# Altium footprint library 2019-09-17_05-22-07.PcbLib: 1 footprints
Each footprint in its own frame and in the unit in brackets; x right, y up, seen from the top. Pads: shape width x height; smd on the part's side, far side on the other; paste and mask are expansions set on the pad; w line width, h text height; cw(c..) or ccw(c..) is an arc to the next point about the centre after c.
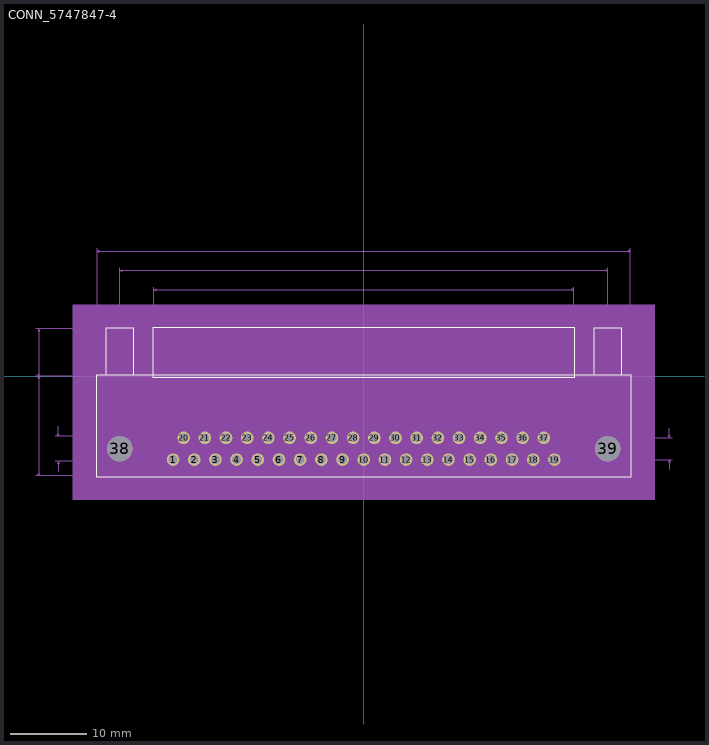
[diagram p0: the footprint, top view; thin cyan lines are the x and y axes]

## CONN_5747847-4 [mil]
pads (39):
  round 65 hole 45 mask+0: 1(-981,-430) 2(-872,-430) 3(-763,-430) 4(-654,-430) 5(-545,-430) 6(-436,-430) 7(-327,-430) 8(-218,-430) 9(-109,-430) 10(0,-430) 11(109,-430) 12(218,-430) 13(327,-430) 14(436,-430) 15(545,-430) 16(654,-430) 17(763,-430) 18(872,-430) 19(981,-430) 20(-926.5,-318) 21(-817.5,-318) 22(-708.5,-318) 23(-599.5,-318) 24(-490.5,-318) 25(-381.5,-318) 26(-272.5,-318) 27(-163.5,-318) 28(-54.5,-318) 29(54.5,-318) 30(163.5,-318) 31(272.5,-318) 32(381.5,-318) 33(490.5,-318) 34(599.5,-318) 35(708.5,-318) 36(817.5,-318) 37(926.5,-318)
  round 130 hole 130: 38(-1255,-374) 39(1255,-374)
Top Overlay:
  lines w6: -1325,5 -1325,248 -1185,248 -1185,5 ; 1185,5 1185,248 1325,248 1325,5 ; -1377,-517 1377,-517 1377,5 -1377,5 -1377,-517 ; -1084.5,-5 1084.5,-5 1084.5,248 -1084.5,248 -1084.5,-5
Mechanical 5:
  region: -1497,368 1497,368 1497,-637 -1497,-637
Mechanical 7:
  lines w1: -1687,-512 -1372,-512 -1372,658 ; -1687,243 -1372,243 ; -1587,-439 -981,-439 ; -1587,-309 -926.5,-309 ; -1572,-489 -1572,-439 ; -1572,-259 -1572,-309 ; -1487,-374 -1255,-374 -1255,558 ; -1487,0 -1372,0 ; -1079.5,243 -1079.5,458 ; -976.5,343 -926.5,343 ; -926.5,-318 -926.5,358 ; -817.5,-318 -817.5,358 ; -767.5,343 -817.5,343 ; 926.5,-318 1587,-318 ; 981,-430 1587,-430 ; 1079.5,243 1079.5,458 ; 1255,-374 1255,558 ; 1372,-512 1372,658 ; 1572,-480 1572,-430 ; 1572,-268 1572,-318 ; -1672,-512 -1672,0 ; -1672,-512 -1677,-502 -1667,-502 -1672,-512 ; -1672,0 -1677,-10 -1667,-10 -1672,0 ; -1672,0 -1672,243 ; -1672,0 -1677,10 -1667,10 -1672,0 ; -1672,243 -1677,233 -1667,233 -1672,243 ; -1572,-439 -1577,-449 -1567,-449 -1572,-439 ; -1572,-309 -1577,-299 -1567,-299 -1572,-309 ; -1472,-374 -1472,0 ; -1472,-374 -1477,-364 -1467,-364 -1472,-374 ; -1472,0 -1477,-10 -1467,-10 -1472,0 ; -1372,0 -1687,0 -1372,0 ; -1372,643 1372,643 ; -1372,643 -1362,648 -1362,638 -1372,643 ; -1255,543 1255,543 ; -1255,543 -1245,548 -1245,538 -1255,543 ; -1079.5,443 1079.5,443 ; -1079.5,443 -1069.5,448 -1069.5,438 -1079.5,443 ; -926.5,343 -936.5,348 -936.5,338 -926.5,343 ; -817.5,343 -807.5,348 -807.5,338 -817.5,343 ; 1079.5,443 1069.5,448 1069.5,438 1079.5,443 ; 1255,543 1245,548 1245,538 1255,543 ; 1372,643 1362,648 1362,638 1372,643 ; 1572,-430 1567,-440 1577,-440 1572,-430 ; 1572,-318 1567,-308 1577,-308 1572,-318
  text "Default Padstyle: EX65Y65D45P" at -362.5,-662 h50
  text "Mounting hole padstyle: EX130Y130D130P" at -475,-762 h50
  text "Alt 1 padstyle: OX60Y90D30P" at -337.5,-862 h50
  text "Alt 2 padstyle: OX90Y60D30P" at -337.5,-962 h50
  text "0.109in/2.769mm" at -965.75,363 h25
  text "2.159in/54.839mm" at -100,463 h25
  text "2.51in/63.754mm" at -93.75,563 h25
  text "2.744in/69.698mm" at -100,663 h25
  text "0.13in/3.302mm" at -1767,-386.5 h25
  text "0.112in/2.845mm" at 1364.5,-386.5 h25
  text "0.374in/9.5mm" at -1654.5,-199.5 h25
  text "0.512in/13.005mm" at -1892,-199.5 h25
  text "0.243in/6.172mm" at -1879.5,109 h25
Mechanical 13:
  lines w1: -1320,0 -1320,243 -1190,243 -1190,0 ; -1287.5,0 -1287.5,243 ; -1222.5,0 -1222.5,243 ; -1006,-512 -981,-562 -956,-512 ; 1190,0 1190,243 1320,243 1320,0 ; 1222.5,0 1222.5,243 ; 1287.5,0 1287.5,243 ; -1372,-512 1372,-512 1372,0 -1372,0 -1372,-512 ; -1079.5,0 1079.5,0 1079.5,243 -1079.5,243 -1079.5,0
Mechanical 15:
  region: 1382,-522 1382,253 -1382,253 -1382,-522
  lines w6: -1382,-522 -1382,253 1382,253 1382,-522 -1382,-522
3D body: height 10, standoff 0, extent 0,0 10,10